# Altium footprint library DB_connectors.PcbLib: 17 footprints (part 2 of 2)
Each footprint in its own frame and in the unit in brackets; x right, y up, seen from the top. Pads: shape width x height; smd on the part's side, far side on the other; paste and mask are expansions set on the pad; w line width, h text height; cw(c..) or ccw(c..) is an arc to the next point about the centre after c.
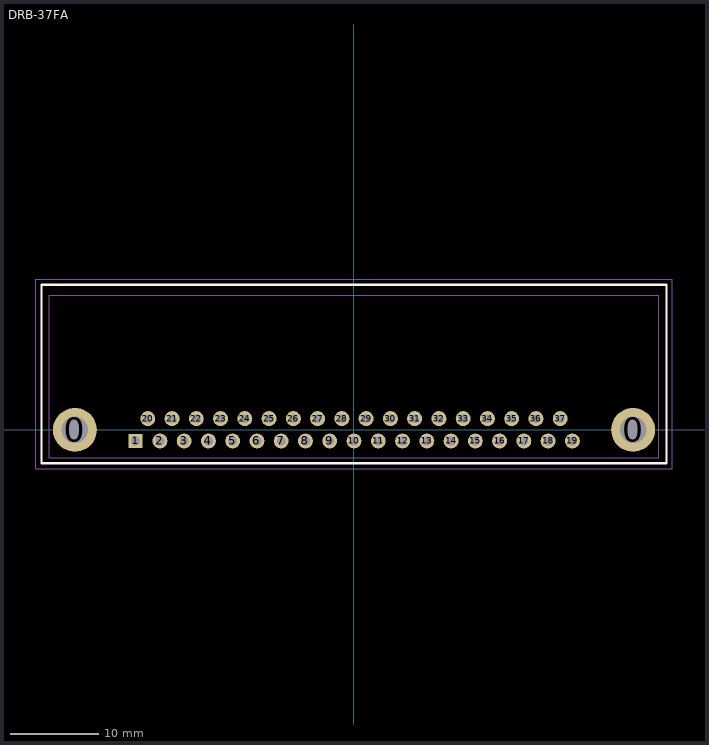
[diagram p1: the footprint, top view; thin cyan lines are the x and y axes]

## DRB-37FA [mm] "37 Way Right Angled Female D-sub Connector"
height 12.55
pads (39):
  round 5 hole 3: 0(-31.75,0) 0(31.75,0)
  rect 1.6x1.6 hole 1: 1(-24.84,-1.27)
  round 1.7 hole 1: 2(-22.08,-1.27) 3(-19.32,-1.27) 4(-16.56,-1.27) 5(-13.8,-1.27) 6(-11.04,-1.27) 7(-8.28,-1.27) 8(-5.52,-1.27) 9(-2.76,-1.27) 10(0,-1.27) 11(2.76,-1.27) 12(5.52,-1.27) 13(8.28,-1.27) 14(11.04,-1.27) 15(13.8,-1.27) 16(16.56,-1.27) 17(19.32,-1.27) 18(22.08,-1.27) 19(24.84,-1.27) 20(-23.46,1.27) 21(-20.7,1.27) 22(-17.94,1.27) 23(-15.18,1.27) 24(-12.42,1.27) 25(-9.66,1.27) 26(-6.9,1.27) 27(-4.14,1.27) 28(-1.38,1.27) 29(1.38,1.27) 30(4.14,1.27) 31(6.9,1.27) 32(9.66,1.27) 33(12.42,1.27) 34(15.18,1.27) 35(17.94,1.27) 36(20.7,1.27) 37(23.46,1.27)
Top Overlay:
  lines w0.254: -35.56,-3.81 35.56,-3.81 35.56,16.51 -35.56,16.51 -35.56,-3.81
Top Assembly:
  lines w0.05: -34.66,-3.175 34.66,-3.175 34.66,15.325 -34.66,15.325 -34.66,-3.175
  text ".Designator" at -4.998,-0.333 h1
Top Courtyard (Mech15):
  lines w0.05: -36.195,-4.445 36.195,-4.445 36.195,17.145 -36.195,17.145 -36.195,-4.445
3D body "Розетка DRB-37F.stp": height 12.55, standoff -3.18, extent -34.687,-2.895 34.633,15.897